# Altium footprint library BJT_ROHM_US6X8TR_1A_NPN.PcbLib: 1 footprints
Each footprint in its own frame and in the unit in brackets; x right, y up, seen from the top. Pads: shape width x height; smd on the part's side, far side on the other; paste and mask are expansions set on the pad; w line width, h text height; cw(c..) or ccw(c..) is an arc to the next point about the centre after c.
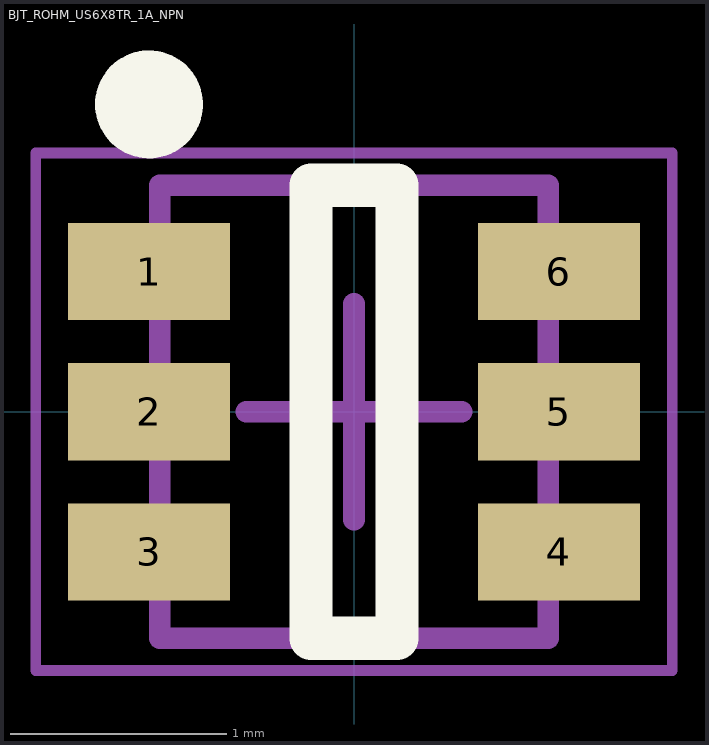
[diagram p0: the footprint, top view; thin cyan lines are the x and y axes]

## BJT_ROHM_US6X8TR_1A_NPN [mm] "Bipolar Transistors - BJT NPN+NPN 30VCEO 1A SOT-363T"
height 0.85
pads (6):
  rect 0.75x0.45 smd: 1(-0.95,0.65) 2(-0.95,0) 3(-0.95,-0.65) 4(0.95,-0.65) 5(0.95,0) 6(0.95,0.65)
Top Overlay:
  circle w0.25: c-0.95,1.425 r0.125
  lines w0.2: -0.2,-1.05 0.2,-1.05 0.2,1.05 -0.2,1.05 -0.2,-1.05
Mechanical 13:
  lines w0.1: -0.9,-1.05 -0.9,1.05 0.9,1.05 0.9,-1.05 -0.9,-1.05
Mechanical 15:
  lines w0.05: -1.475,-1.2 -1.475,1.2 1.475,1.2 1.475,-1.2 -1.475,-1.2
  lines w0.1: -0.5,0 0.5,0 ; 0,-0.5 0,0.5
3D body "SOTFL65P210X85-6N.step": height 0.85, standoff 0, extent -1.05,-1.048 1.05,1.048